# EAGLE library part TL082SG-13 (library diodes-inc-e14)
OPERATIONAL AMPLIFIERS
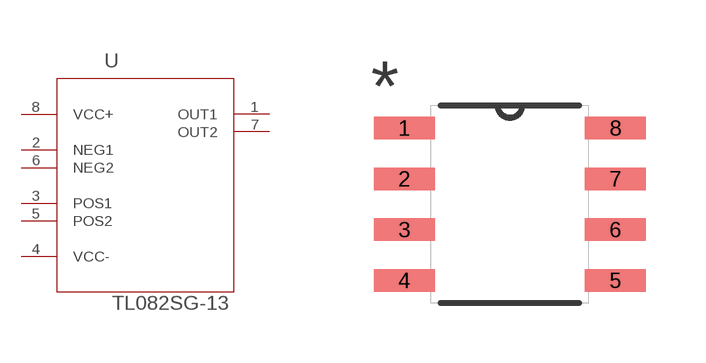
[diagram p49: symbol with the pads of SOIC127P600X175-8N; footprint SOIC127P600X175-8N]

Designator prefix U

## TL082SG-13 (MPN: TL082SG-13; OC_FARNELL: 1904044; OC_NEWARK: 55T3954; PACKAGE: SOIC-8; SUPPLIER: DIODES INC.)  [SOIC127P600X175-8N]
1  OUT1  out
2  NEG1  in
3  POS1  in
4  VCC-  pas
5  POS2  in
6  NEG2  in
7  OUT2  out
8  VCC+  pwr

## Footprint SOIC127P600X175-8N (pad centres in mm)
smd 1.524 x 0.559: 1 -2.642,1.905; 2 -2.642,0.635; 3 -2.642,-0.635; 4 -2.642,-1.905; 5 2.642,-1.905; 6 2.642,-0.635; 7 2.642,0.635; 8 2.642,1.905